# Altium footprint library 2167604473M_120PIN.PcbLib: 1 footprints
Each footprint in its own frame and in the unit in brackets; x right, y up, seen from the top. Pads: shape width x height; smd on the part's side, far side on the other; paste and mask are expansions set on the pad; w line width, h text height; cw(c..) or ccw(c..) is an arc to the next point about the centre after c.
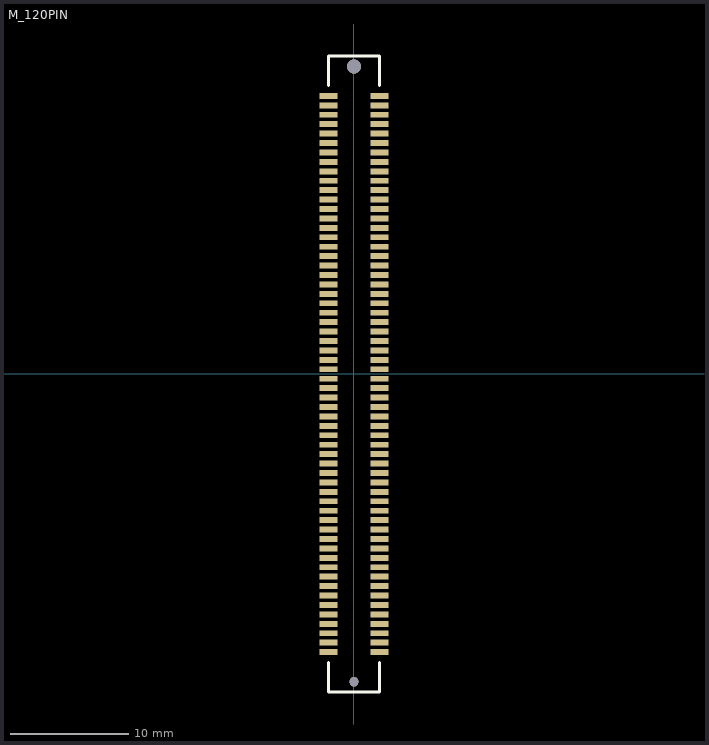
[diagram p0: the footprint, top view; thin cyan lines are the x and y axes]

## M_120PIN [mm] "0.8单槽板对板公母座合高5.0，公座，120PIN"
pads (120):
  rect 1.5x0.5 smd: 1(-2.16,23.6) 2(-2.16,22.8) 3(-2.16,22) 4(-2.16,21.2) 5(-2.16,20.4) 6(-2.16,19.6) 7(-2.16,18.8) 8(-2.16,18) 9(-2.16,17.2) 10(-2.16,16.4) 11(-2.16,15.6) 12(-2.16,14.8) 13(-2.16,14) 14(-2.16,13.2) 15(-2.16,12.4) 16(-2.16,11.6) 17(-2.16,10.8) 18(-2.16,10) 19(-2.16,9.2) 20(-2.16,8.4) 21(-2.16,7.6) 22(-2.16,6.8) 23(-2.16,6) 24(-2.16,5.2) 25(-2.16,4.4) 26(-2.16,3.6) 27(-2.16,2.8) 28(-2.16,2) 29(-2.16,1.2) 30(-2.16,0.4) 31(-2.16,-0.4) 32(-2.16,-1.2) 33(-2.16,-2) 34(-2.16,-2.8) 35(-2.16,-3.6) 36(-2.16,-4.4) 37(-2.16,-5.2) 38(-2.16,-6) 39(-2.16,-6.8) 40(-2.16,-7.6) 41(-2.16,-8.4) 42(-2.16,-9.2) 43(-2.16,-10) 44(-2.16,-10.8) 45(-2.16,-11.6) 46(-2.16,-12.4) 47(-2.16,-13.2) 48(-2.16,-14) 49(-2.16,-14.8) 50(-2.16,-15.6) 51(-2.16,-16.4) 52(-2.16,-17.2) 53(-2.16,-18) 54(-2.16,-18.8) 55(-2.16,-19.6) 56(-2.16,-20.4) 57(-2.16,-21.2) 58(-2.16,-22) 59(-2.16,-22.8) 60(-2.16,-23.6) 61(2.16,-23.6) 62(2.16,-22.8) 63(2.16,-22) 64(2.16,-21.2) 65(2.16,-20.4) 66(2.16,-19.6) 67(2.16,-18.8) 68(2.16,-18) 69(2.16,-17.2) 70(2.16,-16.4) 71(2.16,-15.6) 72(2.16,-14.8) 73(2.16,-14) 74(2.16,-13.2) 75(2.16,-12.4) 76(2.16,-11.6) 77(2.16,-10.8) 78(2.16,-10) 79(2.16,-9.2) 80(2.16,-8.4) 81(2.16,-7.6) 82(2.16,-6.8) 83(2.16,-6) 84(2.16,-5.2) 85(2.16,-4.4) 86(2.16,-3.6) 87(2.16,-2.8) 88(2.16,-2) 89(2.16,-1.2) 90(2.16,-0.4) 91(2.16,0.4) 92(2.16,1.2) 93(2.16,2) 94(2.16,2.8) 95(2.16,3.6) 96(2.16,4.4) 97(2.16,5.2) 98(2.16,6) 99(2.16,6.8) 100(2.16,7.6) 101(2.16,8.4) 102(2.16,9.2) 103(2.16,10) 104(2.16,10.8) 105(2.16,11.6) 106(2.16,12.4) 107(2.16,13.2) 108(2.16,14) 109(2.16,14.8) 110(2.16,15.6) 111(2.16,16.4) 112(2.16,17.2) 113(2.16,18) 114(2.16,18.8) 115(2.16,19.6) 116(2.16,20.4) 117(2.16,21.2) 118(2.16,22) 119(2.16,22.8) 120(2.16,23.6)
via 0,26.1 diameter 1.2 hole 1.2
via 0,-26.1 diameter 0.8 hole 0.8
Top Overlay:
  lines w0.254: -2.16,-24.5 -2.16,-27 2.16,-27 2.16,-24.5 ; -2.16,24.5 -2.16,27 2.16,27 2.16,24.5